# Altium footprint library Package_SO.PcbLib: 393 footprints (part 24 of 25)
Each footprint in its own frame and in the unit in brackets; x right, y up, seen from the top. Pads: shape width x height; smd on the part's side, far side on the other; paste and mask are expansions set on the pad; w line width, h text height; cw(c..) or ccw(c..) is an arc to the next point about the centre after c.
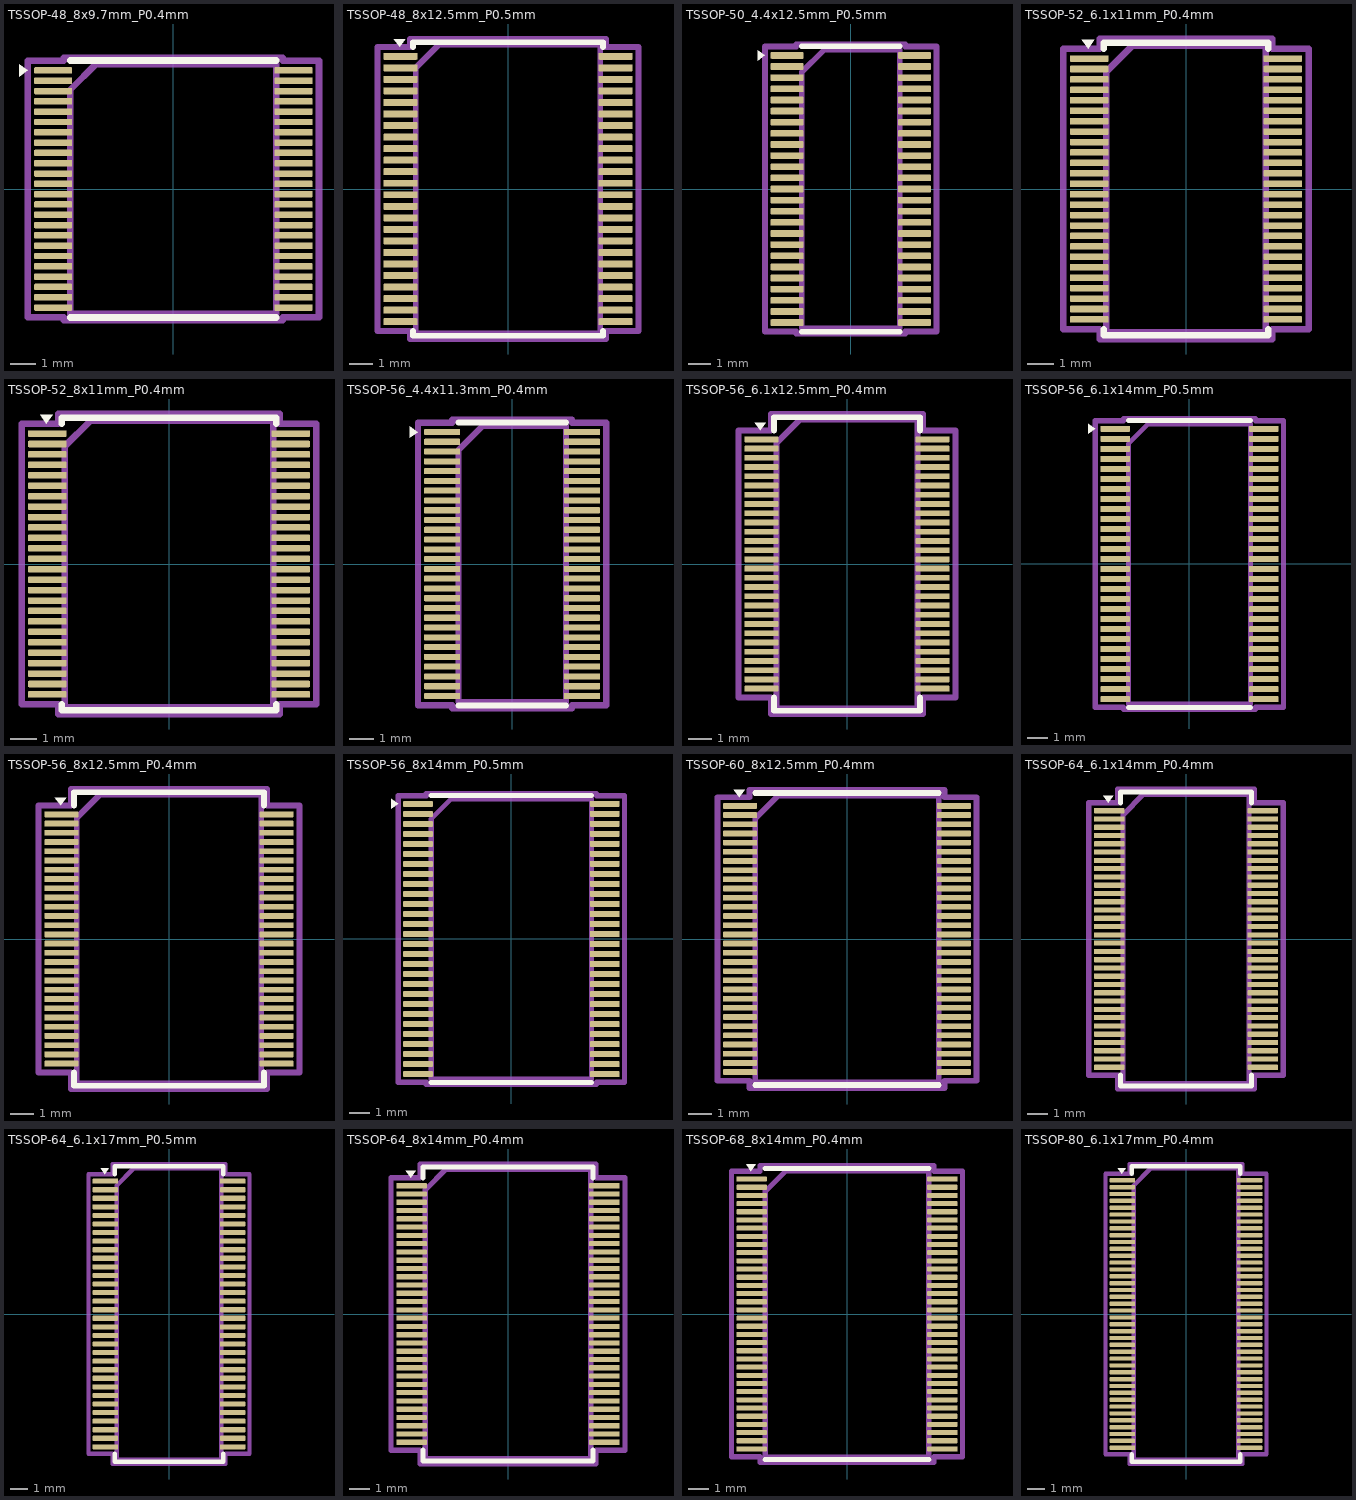
[diagram p23: the footprints below, top view; thin cyan lines are the x and y axes]

## TSSOP-48_8x9.7mm_P0.4mm [mm]
pads (48):
  rrect25% 1.475x0.25 smd: 1(-4.663,4.6) 2(-4.663,4.2) 3(-4.663,3.8) 4(-4.663,3.4) 5(-4.663,3) 6(-4.663,2.6) 7(-4.663,2.2) 8(-4.663,1.8) 9(-4.663,1.4) 10(-4.663,1) 11(-4.663,0.6) 12(-4.663,0.2) 13(-4.663,-0.2) 14(-4.663,-0.6) 15(-4.663,-1) 16(-4.663,-1.4) 17(-4.663,-1.8) 18(-4.663,-2.2) 19(-4.663,-2.6) 20(-4.663,-3) 21(-4.663,-3.4) 22(-4.663,-3.8) 23(-4.663,-4.2) 24(-4.663,-4.6) 25(4.663,-4.6) 26(4.663,-4.2) 27(4.663,-3.8) 28(4.663,-3.4) 29(4.663,-3) 30(4.663,-2.6) 31(4.663,-2.2) 32(4.663,-1.8) 33(4.663,-1.4) 34(4.663,-1) 35(4.663,-0.6) 36(4.663,-0.2) 37(4.663,0.2) 38(4.663,0.6) 39(4.663,1) 40(4.663,1.4) 41(4.663,1.8) 42(4.663,2.2) 43(4.663,2.6) 44(4.663,3) 45(4.663,3.4) 46(4.663,3.8) 47(4.663,4.2) 48(4.663,4.6)
F.SilkS:
  region: -5.66,4.6 -5.99,4.36 -5.99,4.84
  lines w0.254: -4,-4.985 0,-4.985 4,-4.985 ; -4,4.985 0,4.985 4,4.985
Top Assembly:
  lines w0.254: -4,-4.85 4,-4.85 4,4.85 -3,4.85 -4,3.85 -4,-4.85
  text "'.Designator'" at -4.047,-0.84 h1
Top Courtyard:
  lines w0.254: -5.65,-4.98 -4.25,-4.98 -4.25,-5.1 4.25,-5.1 4.25,-4.98 5.65,-4.98 5.65,4.98 4.25,4.98 4.25,5.1 -4.25,5.1 -4.25,4.98 -5.65,4.98 -5.65,-4.98
Top Designator:
  text ".Designator" at -7.724,-0.508 h1.52

## TSSOP-48_8x12.5mm_P0.5mm [mm]
pads (48):
  rrect25% 1.475x0.3 smd: 1(-4.663,5.75) 2(-4.663,5.25) 3(-4.663,4.75) 4(-4.663,4.25) 5(-4.663,3.75) 6(-4.663,3.25) 7(-4.663,2.75) 8(-4.663,2.25) 9(-4.663,1.75) 10(-4.663,1.25) 11(-4.663,0.75) 12(-4.663,0.25) 13(-4.663,-0.25) 14(-4.663,-0.75) 15(-4.663,-1.25) 16(-4.663,-1.75) 17(-4.663,-2.25) 18(-4.663,-2.75) 19(-4.663,-3.25) 20(-4.663,-3.75) 21(-4.663,-4.25) 22(-4.663,-4.75) 23(-4.663,-5.25) 24(-4.663,-5.75) 25(4.663,-5.75) 26(4.663,-5.25) 27(4.663,-4.75) 28(4.663,-4.25) 29(4.663,-3.75) 30(4.663,-3.25) 31(4.663,-2.75) 32(4.663,-2.25) 33(4.663,-1.75) 34(4.663,-1.25) 35(4.663,-0.75) 36(4.663,-0.25) 37(4.663,0.25) 38(4.663,0.75) 39(4.663,1.25) 40(4.663,1.75) 41(4.663,2.25) 42(4.663,2.75) 43(4.663,3.25) 44(4.663,3.75) 45(4.663,4.25) 46(4.663,4.75) 47(4.663,5.25) 48(4.663,5.75)
F.SilkS:
  region: -4.7,6.16 -4.94,6.49 -4.46,6.49
  lines w0.254: -4.11,-6.16 -4.11,-6.36 0,-6.36 4.11,-6.36 4.11,-6.16 ; -4.11,6.16 -4.11,6.36 0,6.36 4.11,6.36 4.11,6.16
Top Assembly:
  lines w0.254: -4,-6.25 4,-6.25 4,6.25 -3,6.25 -4,5.25 -4,-6.25
  text "'.Designator'" at -4.047,-0.84 h1
Top Courtyard:
  lines w0.254: -5.65,-6.15 -4.25,-6.15 -4.25,-6.5 4.25,-6.5 4.25,-6.15 5.65,-6.15 5.65,6.15 4.25,6.15 4.25,6.5 -4.25,6.5 -4.25,6.15 -5.65,6.15 -5.65,-6.15
Top Designator:
  text ".Designator" at -7.618,-0.508 h1.52

## TSSOP-50_4.4x12.5mm_P0.5mm [mm]
pads (50):
  rrect25% 1.475x0.3 smd: 1(-2.863,6) 2(-2.863,5.5) 3(-2.863,5) 4(-2.863,4.5) 5(-2.863,4) 6(-2.863,3.5) 7(-2.863,3) 8(-2.863,2.5) 9(-2.863,2) 10(-2.863,1.5) 11(-2.863,1) 12(-2.863,0.5) 13(-2.863,0) 14(-2.863,-0.5) 15(-2.863,-1) 16(-2.863,-1.5) 17(-2.863,-2) 18(-2.863,-2.5) 19(-2.863,-3) 20(-2.863,-3.5) 21(-2.863,-4) 22(-2.863,-4.5) 23(-2.863,-5) 24(-2.863,-5.5) 25(-2.863,-6) 26(2.863,-6) 27(2.863,-5.5) 28(2.863,-5) 29(2.863,-4.5) 30(2.863,-4) 31(2.863,-3.5) 32(2.863,-3) 33(2.863,-2.5) 34(2.863,-2) 35(2.863,-1.5) 36(2.863,-1) 37(2.863,-0.5) 38(2.863,0) 39(2.863,0.5) 40(2.863,1) 41(2.863,1.5) 42(2.863,2) 43(2.863,2.5) 44(2.863,3) 45(2.863,3.5) 46(2.863,4) 47(2.863,4.5) 48(2.863,5) 49(2.863,5.5) 50(2.863,6)
F.SilkS:
  region: -3.86,6 -4.19,5.76 -4.19,6.24
  lines w0.254: -2.2,-6.41 0,-6.41 2.2,-6.41 ; -2.2,6.41 0,6.41 2.2,6.41
Top Assembly:
  lines w0.254: -2.2,-6.25 2.2,-6.25 2.2,6.25 -1.2,6.25 -2.2,5.25 -2.2,-6.25
  text "'.Designator'" at -4.047,-0.84 h1
Top Courtyard:
  lines w0.254: -3.85,-6.4 -2.45,-6.4 -2.45,-6.5 2.45,-6.5 2.45,-6.4 3.85,-6.4 3.85,6.4 2.45,6.4 2.45,6.5 -2.45,6.5 -2.45,6.4 -3.85,6.4 -3.85,-6.4
Top Designator:
  text ".Designator" at -7.727,-0.508 h1.52

## TSSOP-52_6.1x11mm_P0.4mm [mm]
pads (52):
  rrect25% 1.475x0.25 smd: 1(-3.712,5) 2(-3.712,4.6) 3(-3.712,4.2) 4(-3.712,3.8) 5(-3.712,3.4) 6(-3.712,3) 7(-3.712,2.6) 8(-3.712,2.2) 9(-3.712,1.8) 10(-3.712,1.4) 11(-3.712,1) 12(-3.712,0.6) 13(-3.712,0.2) 14(-3.712,-0.2) 15(-3.712,-0.6) 16(-3.712,-1) 17(-3.712,-1.4) 18(-3.712,-1.8) 19(-3.712,-2.2) 20(-3.712,-2.6) 21(-3.712,-3) 22(-3.712,-3.4) 23(-3.712,-3.8) 24(-3.712,-4.2) 25(-3.712,-4.6) 26(-3.712,-5) 27(3.712,-5) 28(3.712,-4.6) 29(3.712,-4.2) 30(3.712,-3.8) 31(3.712,-3.4) 32(3.712,-3) 33(3.712,-2.6) 34(3.712,-2.2) 35(3.712,-1.8) 36(3.712,-1.4) 37(3.712,-1) 38(3.712,-0.6) 39(3.712,-0.2) 40(3.712,0.2) 41(3.712,0.6) 42(3.712,1) 43(3.712,1.4) 44(3.712,1.8) 45(3.712,2.2) 46(3.712,2.6) 47(3.712,3) 48(3.712,3.4) 49(3.712,3.8) 50(3.712,4.2) 51(3.712,4.6) 52(3.712,5)
F.SilkS:
  region: -3.75,5.385 -3.99,5.715 -3.51,5.715
  lines w0.254: -3.16,-5.385 -3.16,-5.61 0,-5.61 3.16,-5.61 3.16,-5.385 ; -3.16,5.385 -3.16,5.61 0,5.61 3.16,5.61 3.16,5.385
Top Assembly:
  lines w0.254: -3.05,-5.5 3.05,-5.5 3.05,5.5 -2.05,5.5 -3.05,4.5 -3.05,-5.5
  text "'.Designator'" at -4.047,-0.84 h1
Top Courtyard:
  lines w0.254: -4.7,-5.38 -3.3,-5.38 -3.3,-5.75 3.3,-5.75 3.3,-5.38 4.7,-5.38 4.7,5.38 3.3,5.38 3.3,5.75 -3.3,5.75 -3.3,5.38 -4.7,5.38 -4.7,-5.38
Top Designator:
  text ".Designator" at -7.618,-0.508 h1.52

## TSSOP-52_8x11mm_P0.4mm [mm]
pads (52):
  rrect25% 1.475x0.25 smd: 1(-4.663,5) 2(-4.663,4.6) 3(-4.663,4.2) 4(-4.663,3.8) 5(-4.663,3.4) 6(-4.663,3) 7(-4.663,2.6) 8(-4.663,2.2) 9(-4.663,1.8) 10(-4.663,1.4) 11(-4.663,1) 12(-4.663,0.6) 13(-4.663,0.2) 14(-4.663,-0.2) 15(-4.663,-0.6) 16(-4.663,-1) 17(-4.663,-1.4) 18(-4.663,-1.8) 19(-4.663,-2.2) 20(-4.663,-2.6) 21(-4.663,-3) 22(-4.663,-3.4) 23(-4.663,-3.8) 24(-4.663,-4.2) 25(-4.663,-4.6) 26(-4.663,-5) 27(4.663,-5) 28(4.663,-4.6) 29(4.663,-4.2) 30(4.663,-3.8) 31(4.663,-3.4) 32(4.663,-3) 33(4.663,-2.6) 34(4.663,-2.2) 35(4.663,-1.8) 36(4.663,-1.4) 37(4.663,-1) 38(4.663,-0.6) 39(4.663,-0.2) 40(4.663,0.2) 41(4.663,0.6) 42(4.663,1) 43(4.663,1.4) 44(4.663,1.8) 45(4.663,2.2) 46(4.663,2.6) 47(4.663,3) 48(4.663,3.4) 49(4.663,3.8) 50(4.663,4.2) 51(4.663,4.6) 52(4.663,5)
F.SilkS:
  region: -4.7,5.385 -4.94,5.715 -4.46,5.715
  lines w0.254: -4.11,-5.385 -4.11,-5.61 0,-5.61 4.11,-5.61 4.11,-5.385 ; -4.11,5.385 -4.11,5.61 0,5.61 4.11,5.61 4.11,5.385
Top Assembly:
  lines w0.254: -4,-5.5 4,-5.5 4,5.5 -3,5.5 -4,4.5 -4,-5.5
  text "'.Designator'" at -4.047,-0.84 h1
Top Courtyard:
  lines w0.254: -5.65,-5.38 -4.25,-5.38 -4.25,-5.75 4.25,-5.75 4.25,-5.38 5.65,-5.38 5.65,5.38 4.25,5.38 4.25,5.75 -4.25,5.75 -4.25,5.38 -5.65,5.38 -5.65,-5.38
Top Designator:
  text ".Designator" at -7.618,-0.508 h1.52

## TSSOP-56_4.4x11.3mm_P0.4mm [mm]
pads (56):
  rrect25% 1.475x0.25 smd: 1(-2.863,5.4) 2(-2.863,5) 3(-2.863,4.6) 4(-2.863,4.2) 5(-2.863,3.8) 6(-2.863,3.4) 7(-2.863,3) 8(-2.863,2.6) 9(-2.863,2.2) 10(-2.863,1.8) 11(-2.863,1.4) 12(-2.863,1) 13(-2.863,0.6) 14(-2.863,0.2) 15(-2.863,-0.2) 16(-2.863,-0.6) 17(-2.863,-1) 18(-2.863,-1.4) 19(-2.863,-1.8) 20(-2.863,-2.2) 21(-2.863,-2.6) 22(-2.863,-3) 23(-2.863,-3.4) 24(-2.863,-3.8) 25(-2.863,-4.2) 26(-2.863,-4.6) 27(-2.863,-5) 28(-2.863,-5.4) 29(2.863,-5.4) 30(2.863,-5) 31(2.863,-4.6) 32(2.863,-4.2) 33(2.863,-3.8) 34(2.863,-3.4) 35(2.863,-3) 36(2.863,-2.6) 37(2.863,-2.2) 38(2.863,-1.8) 39(2.863,-1.4) 40(2.863,-1) 41(2.863,-0.6) 42(2.863,-0.2) 43(2.863,0.2) 44(2.863,0.6) 45(2.863,1) 46(2.863,1.4) 47(2.863,1.8) 48(2.863,2.2) 49(2.863,2.6) 50(2.863,3) 51(2.863,3.4) 52(2.863,3.8) 53(2.863,4.2) 54(2.863,4.6) 55(2.863,5) 56(2.863,5.4)
F.SilkS:
  region: -3.86,5.4 -4.19,5.16 -4.19,5.64
  lines w0.254: -2.2,-5.785 0,-5.785 2.2,-5.785 ; -2.2,5.785 0,5.785 2.2,5.785
Top Assembly:
  lines w0.254: -2.2,-5.65 2.2,-5.65 2.2,5.65 -1.2,5.65 -2.2,4.65 -2.2,-5.65
  text "'.Designator'" at -4.047,-0.84 h1
Top Courtyard:
  lines w0.254: -3.85,-5.78 -2.45,-5.78 -2.45,-5.9 2.45,-5.9 2.45,-5.78 3.85,-5.78 3.85,5.78 2.45,5.78 2.45,5.9 -2.45,5.9 -2.45,5.78 -3.85,5.78 -3.85,-5.78
Top Designator:
  text ".Designator" at -7.727,-0.508 h1.52

## TSSOP-56_6.1x12.5mm_P0.4mm [mm]
pads (56):
  rrect25% 1.475x0.25 smd: 1(-3.712,5.4) 2(-3.712,5) 3(-3.712,4.6) 4(-3.712,4.2) 5(-3.712,3.8) 6(-3.712,3.4) 7(-3.712,3) 8(-3.712,2.6) 9(-3.712,2.2) 10(-3.712,1.8) 11(-3.712,1.4) 12(-3.712,1) 13(-3.712,0.6) 14(-3.712,0.2) 15(-3.712,-0.2) 16(-3.712,-0.6) 17(-3.712,-1) 18(-3.712,-1.4) 19(-3.712,-1.8) 20(-3.712,-2.2) 21(-3.712,-2.6) 22(-3.712,-3) 23(-3.712,-3.4) 24(-3.712,-3.8) 25(-3.712,-4.2) 26(-3.712,-4.6) 27(-3.712,-5) 28(-3.712,-5.4) 29(3.712,-5.4) 30(3.712,-5) 31(3.712,-4.6) 32(3.712,-4.2) 33(3.712,-3.8) 34(3.712,-3.4) 35(3.712,-3) 36(3.712,-2.6) 37(3.712,-2.2) 38(3.712,-1.8) 39(3.712,-1.4) 40(3.712,-1) 41(3.712,-0.6) 42(3.712,-0.2) 43(3.712,0.2) 44(3.712,0.6) 45(3.712,1) 46(3.712,1.4) 47(3.712,1.8) 48(3.712,2.2) 49(3.712,2.6) 50(3.712,3) 51(3.712,3.4) 52(3.712,3.8) 53(3.712,4.2) 54(3.712,4.6) 55(3.712,5) 56(3.712,5.4)
F.SilkS:
  region: -3.75,5.785 -3.99,6.115 -3.51,6.115
  lines w0.254: -3.16,-5.785 -3.16,-6.36 0,-6.36 3.16,-6.36 3.16,-5.785 ; -3.16,5.785 -3.16,6.36 0,6.36 3.16,6.36 3.16,5.785
Top Assembly:
  lines w0.254: -3.05,-6.25 3.05,-6.25 3.05,6.25 -2.05,6.25 -3.05,5.25 -3.05,-6.25
  text "'.Designator'" at -4.047,-0.84 h1
Top Courtyard:
  lines w0.254: -4.7,-5.78 -3.3,-5.78 -3.3,-6.5 3.3,-6.5 3.3,-5.78 4.7,-5.78 4.7,5.78 3.3,5.78 3.3,6.5 -3.3,6.5 -3.3,5.78 -4.7,5.78 -4.7,-5.78
Top Designator:
  text ".Designator" at -7.618,-0.508 h1.52

## TSSOP-56_6.1x14mm_P0.5mm [mm]
pads (56):
  rrect25% 1.475x0.3 smd: 1(-3.712,6.75) 2(-3.712,6.25) 3(-3.712,5.75) 4(-3.712,5.25) 5(-3.712,4.75) 6(-3.712,4.25) 7(-3.712,3.75) 8(-3.712,3.25) 9(-3.712,2.75) 10(-3.712,2.25) 11(-3.712,1.75) 12(-3.712,1.25) 13(-3.712,0.75) 14(-3.712,0.25) 15(-3.712,-0.25) 16(-3.712,-0.75) 17(-3.712,-1.25) 18(-3.712,-1.75) 19(-3.712,-2.25) 20(-3.712,-2.75) 21(-3.712,-3.25) 22(-3.712,-3.75) 23(-3.712,-4.25) 24(-3.712,-4.75) 25(-3.712,-5.25) 26(-3.712,-5.75) 27(-3.712,-6.25) 28(-3.712,-6.75) 29(3.712,-6.75) 30(3.712,-6.25) 31(3.712,-5.75) 32(3.712,-5.25) 33(3.712,-4.75) 34(3.712,-4.25) 35(3.712,-3.75) 36(3.712,-3.25) 37(3.712,-2.75) 38(3.712,-2.25) 39(3.712,-1.75) 40(3.712,-1.25) 41(3.712,-0.75) 42(3.712,-0.25) 43(3.712,0.25) 44(3.712,0.75) 45(3.712,1.25) 46(3.712,1.75) 47(3.712,2.25) 48(3.712,2.75) 49(3.712,3.25) 50(3.712,3.75) 51(3.712,4.25) 52(3.712,4.75) 53(3.712,5.25) 54(3.712,5.75) 55(3.712,6.25) 56(3.712,6.75)
F.SilkS:
  region: -4.71,6.75 -5.04,6.51 -5.04,6.99
  lines w0.254: -3.05,-7.16 0,-7.16 3.05,-7.16 ; -3.05,7.16 0,7.16 3.05,7.16
Top Assembly:
  lines w0.254: -3.05,-7 3.05,-7 3.05,7 -2.05,7 -3.05,6 -3.05,-7
  text "'.Designator'" at -4.047,-0.84 h1
Top Courtyard:
  lines w0.254: -4.7,-7.15 -3.3,-7.15 -3.3,-7.25 3.3,-7.25 3.3,-7.15 4.7,-7.15 4.7,7.15 3.3,7.15 3.3,7.25 -3.3,7.25 -3.3,7.15 -4.7,7.15 -4.7,-7.15
Top Designator:
  text ".Designator" at -7.724,-0.508 h1.52

## TSSOP-56_8x12.5mm_P0.4mm [mm]
pads (56):
  rrect25% 1.475x0.25 smd: 1(-4.663,5.4) 2(-4.663,5) 3(-4.663,4.6) 4(-4.663,4.2) 5(-4.663,3.8) 6(-4.663,3.4) 7(-4.663,3) 8(-4.663,2.6) 9(-4.663,2.2) 10(-4.663,1.8) 11(-4.663,1.4) 12(-4.663,1) 13(-4.663,0.6) 14(-4.663,0.2) 15(-4.663,-0.2) 16(-4.663,-0.6) 17(-4.663,-1) 18(-4.663,-1.4) 19(-4.663,-1.8) 20(-4.663,-2.2) 21(-4.663,-2.6) 22(-4.663,-3) 23(-4.663,-3.4) 24(-4.663,-3.8) 25(-4.663,-4.2) 26(-4.663,-4.6) 27(-4.663,-5) 28(-4.663,-5.4) 29(4.663,-5.4) 30(4.663,-5) 31(4.663,-4.6) 32(4.663,-4.2) 33(4.663,-3.8) 34(4.663,-3.4) 35(4.663,-3) 36(4.663,-2.6) 37(4.663,-2.2) 38(4.663,-1.8) 39(4.663,-1.4) 40(4.663,-1) 41(4.663,-0.6) 42(4.663,-0.2) 43(4.663,0.2) 44(4.663,0.6) 45(4.663,1) 46(4.663,1.4) 47(4.663,1.8) 48(4.663,2.2) 49(4.663,2.6) 50(4.663,3) 51(4.663,3.4) 52(4.663,3.8) 53(4.663,4.2) 54(4.663,4.6) 55(4.663,5) 56(4.663,5.4)
F.SilkS:
  region: -4.7,5.785 -4.94,6.115 -4.46,6.115
  lines w0.254: -4.11,-5.785 -4.11,-6.36 0,-6.36 4.11,-6.36 4.11,-5.785 ; -4.11,5.785 -4.11,6.36 0,6.36 4.11,6.36 4.11,5.785
Top Assembly:
  lines w0.254: -4,-6.25 4,-6.25 4,6.25 -3,6.25 -4,5.25 -4,-6.25
  text "'.Designator'" at -4.047,-0.84 h1
Top Courtyard:
  lines w0.254: -5.65,-5.78 -4.25,-5.78 -4.25,-6.5 4.25,-6.5 4.25,-5.78 5.65,-5.78 5.65,5.78 4.25,5.78 4.25,6.5 -4.25,6.5 -4.25,5.78 -5.65,5.78 -5.65,-5.78
Top Designator:
  text ".Designator" at -7.618,-0.508 h1.52

## TSSOP-56_8x14mm_P0.5mm [mm]
pads (56):
  rrect25% 1.475x0.3 smd: 1(-4.663,6.75) 2(-4.663,6.25) 3(-4.663,5.75) 4(-4.663,5.25) 5(-4.663,4.75) 6(-4.663,4.25) 7(-4.663,3.75) 8(-4.663,3.25) 9(-4.663,2.75) 10(-4.663,2.25) 11(-4.663,1.75) 12(-4.663,1.25) 13(-4.663,0.75) 14(-4.663,0.25) 15(-4.663,-0.25) 16(-4.663,-0.75) 17(-4.663,-1.25) 18(-4.663,-1.75) 19(-4.663,-2.25) 20(-4.663,-2.75) 21(-4.663,-3.25) 22(-4.663,-3.75) 23(-4.663,-4.25) 24(-4.663,-4.75) 25(-4.663,-5.25) 26(-4.663,-5.75) 27(-4.663,-6.25) 28(-4.663,-6.75) 29(4.663,-6.75) 30(4.663,-6.25) 31(4.663,-5.75) 32(4.663,-5.25) 33(4.663,-4.75) 34(4.663,-4.25) 35(4.663,-3.75) 36(4.663,-3.25) 37(4.663,-2.75) 38(4.663,-2.25) 39(4.663,-1.75) 40(4.663,-1.25) 41(4.663,-0.75) 42(4.663,-0.25) 43(4.663,0.25) 44(4.663,0.75) 45(4.663,1.25) 46(4.663,1.75) 47(4.663,2.25) 48(4.663,2.75) 49(4.663,3.25) 50(4.663,3.75) 51(4.663,4.25) 52(4.663,4.75) 53(4.663,5.25) 54(4.663,5.75) 55(4.663,6.25) 56(4.663,6.75)
F.SilkS:
  region: -5.66,6.75 -5.99,6.51 -5.99,6.99
  lines w0.254: -4,-7.16 0,-7.16 4,-7.16 ; -4,7.16 0,7.16 4,7.16
Top Assembly:
  lines w0.254: -4,-7 4,-7 4,7 -3,7 -4,6 -4,-7
  text "'.Designator'" at -4.047,-0.84 h1
Top Courtyard:
  lines w0.254: -5.65,-7.15 -4.25,-7.15 -4.25,-7.25 4.25,-7.25 4.25,-7.15 5.65,-7.15 5.65,7.15 4.25,7.15 4.25,7.25 -4.25,7.25 -4.25,7.15 -5.65,7.15 -5.65,-7.15
Top Designator:
  text ".Designator" at -7.724,-0.508 h1.52

## TSSOP-60_8x12.5mm_P0.4mm [mm]
pads (60):
  rrect25% 1.475x0.25 smd: 1(-4.663,5.8) 2(-4.663,5.4) 3(-4.663,5) 4(-4.663,4.6) 5(-4.663,4.2) 6(-4.663,3.8) 7(-4.663,3.4) 8(-4.663,3) 9(-4.663,2.6) 10(-4.663,2.2) 11(-4.663,1.8) 12(-4.663,1.4) 13(-4.663,1) 14(-4.663,0.6) 15(-4.663,0.2) 16(-4.663,-0.2) 17(-4.663,-0.6) 18(-4.663,-1) 19(-4.663,-1.4) 20(-4.663,-1.8) 21(-4.663,-2.2) 22(-4.663,-2.6) 23(-4.663,-3) 24(-4.663,-3.4) 25(-4.663,-3.8) 26(-4.663,-4.2) 27(-4.663,-4.6) 28(-4.663,-5) 29(-4.663,-5.4) 30(-4.663,-5.8) 31(4.663,-5.8) 32(4.663,-5.4) 33(4.663,-5) 34(4.663,-4.6) 35(4.663,-4.2) 36(4.663,-3.8) 37(4.663,-3.4) 38(4.663,-3) 39(4.663,-2.6) 40(4.663,-2.2) 41(4.663,-1.8) 42(4.663,-1.4) 43(4.663,-1) 44(4.663,-0.6) 45(4.663,-0.2) 46(4.663,0.2) 47(4.663,0.6) 48(4.663,1) 49(4.663,1.4) 50(4.663,1.8) 51(4.663,2.2) 52(4.663,2.6) 53(4.663,3) 54(4.663,3.4) 55(4.663,3.8) 56(4.663,4.2) 57(4.663,4.6) 58(4.663,5) 59(4.663,5.4) 60(4.663,5.8)
F.SilkS:
  region: -4.7,6.185 -4.94,6.515 -4.46,6.515
  lines w0.254: -4,-6.36 0,-6.36 4,-6.36 ; -4,6.36 0,6.36 4,6.36
Top Assembly:
  lines w0.254: -4,-6.25 4,-6.25 4,6.25 -3,6.25 -4,5.25 -4,-6.25
  text "'.Designator'" at -4.047,-0.84 h1
Top Courtyard:
  lines w0.254: -5.65,-6.18 -4.25,-6.18 -4.25,-6.5 4.25,-6.5 4.25,-6.18 5.65,-6.18 5.65,6.18 4.25,6.18 4.25,6.5 -4.25,6.5 -4.25,6.18 -5.65,6.18 -5.65,-6.18
Top Designator:
  text ".Designator" at -7.618,-0.508 h1.52

## TSSOP-64_6.1x14mm_P0.4mm [mm]
pads (64):
  rrect25% 1.475x0.25 smd: 1(-3.712,6.2) 2(-3.712,5.8) 3(-3.712,5.4) 4(-3.712,5) 5(-3.712,4.6) 6(-3.712,4.2) 7(-3.712,3.8) 8(-3.712,3.4) 9(-3.712,3) 10(-3.712,2.6) 11(-3.712,2.2) 12(-3.712,1.8) 13(-3.712,1.4) 14(-3.712,1) 15(-3.712,0.6) 16(-3.712,0.2) 17(-3.712,-0.2) 18(-3.712,-0.6) 19(-3.712,-1) 20(-3.712,-1.4) 21(-3.712,-1.8) 22(-3.712,-2.2) 23(-3.712,-2.6) 24(-3.712,-3) 25(-3.712,-3.4) 26(-3.712,-3.8) 27(-3.712,-4.2) 28(-3.712,-4.6) 29(-3.712,-5) 30(-3.712,-5.4) 31(-3.712,-5.8) 32(-3.712,-6.2) 33(3.712,-6.2) 34(3.712,-5.8) 35(3.712,-5.4) 36(3.712,-5) 37(3.712,-4.6) 38(3.712,-4.2) 39(3.712,-3.8) 40(3.712,-3.4) 41(3.712,-3) 42(3.712,-2.6) 43(3.712,-2.2) 44(3.712,-1.8) 45(3.712,-1.4) 46(3.712,-1) 47(3.712,-0.6) 48(3.712,-0.2) 49(3.712,0.2) 50(3.712,0.6) 51(3.712,1) 52(3.712,1.4) 53(3.712,1.8) 54(3.712,2.2) 55(3.712,2.6) 56(3.712,3) 57(3.712,3.4) 58(3.712,3.8) 59(3.712,4.2) 60(3.712,4.6) 61(3.712,5) 62(3.712,5.4) 63(3.712,5.8) 64(3.712,6.2)
F.SilkS:
  region: -3.75,6.585 -3.99,6.915 -3.51,6.915
  lines w0.254: -3.16,-6.585 -3.16,-7.11 0,-7.11 3.16,-7.11 3.16,-6.585 ; -3.16,6.585 -3.16,7.11 0,7.11 3.16,7.11 3.16,6.585
Top Assembly:
  lines w0.254: -3.05,-7 3.05,-7 3.05,7 -2.05,7 -3.05,6 -3.05,-7
  text "'.Designator'" at -4.047,-0.84 h1
Top Courtyard:
  lines w0.254: -4.7,-6.58 -3.3,-6.58 -3.3,-7.25 3.3,-7.25 3.3,-6.58 4.7,-6.58 4.7,6.58 3.3,6.58 3.3,7.25 -3.3,7.25 -3.3,6.58 -4.7,6.58 -4.7,-6.58
Top Designator:
  text ".Designator" at -7.618,-0.508 h1.52

## TSSOP-64_6.1x17mm_P0.5mm [mm]
pads (64):
  rrect25% 1.475x0.3 smd: 1(-3.712,7.75) 2(-3.712,7.25) 3(-3.712,6.75) 4(-3.712,6.25) 5(-3.712,5.75) 6(-3.712,5.25) 7(-3.712,4.75) 8(-3.712,4.25) 9(-3.712,3.75) 10(-3.712,3.25) 11(-3.712,2.75) 12(-3.712,2.25) 13(-3.712,1.75) 14(-3.712,1.25) 15(-3.712,0.75) 16(-3.712,0.25) 17(-3.712,-0.25) 18(-3.712,-0.75) 19(-3.712,-1.25) 20(-3.712,-1.75) 21(-3.712,-2.25) 22(-3.712,-2.75) 23(-3.712,-3.25) 24(-3.712,-3.75) 25(-3.712,-4.25) 26(-3.712,-4.75) 27(-3.712,-5.25) 28(-3.712,-5.75) 29(-3.712,-6.25) 30(-3.712,-6.75) 31(-3.712,-7.25) 32(-3.712,-7.75) 33(3.712,-7.75) 34(3.712,-7.25) 35(3.712,-6.75) 36(3.712,-6.25) 37(3.712,-5.75) 38(3.712,-5.25) 39(3.712,-4.75) 40(3.712,-4.25) 41(3.712,-3.75) 42(3.712,-3.25) 43(3.712,-2.75) 44(3.712,-2.25) 45(3.712,-1.75) 46(3.712,-1.25) 47(3.712,-0.75) 48(3.712,-0.25) 49(3.712,0.25) 50(3.712,0.75) 51(3.712,1.25) 52(3.712,1.75) 53(3.712,2.25) 54(3.712,2.75) 55(3.712,3.25) 56(3.712,3.75) 57(3.712,4.25) 58(3.712,4.75) 59(3.712,5.25) 60(3.712,5.75) 61(3.712,6.25) 62(3.712,6.75) 63(3.712,7.25) 64(3.712,7.75)
F.SilkS:
  region: -3.75,8.16 -3.99,8.49 -3.51,8.49
  lines w0.254: -3.16,-8.16 -3.16,-8.61 0,-8.61 3.16,-8.61 3.16,-8.16 ; -3.16,8.16 -3.16,8.61 0,8.61 3.16,8.61 3.16,8.16
Top Assembly:
  lines w0.254: -3.05,-8.5 3.05,-8.5 3.05,8.5 -2.05,8.5 -3.05,7.5 -3.05,-8.5
  text "'.Designator'" at -4.047,-0.84 h1
Top Courtyard:
  lines w0.254: -4.7,-8.15 -3.3,-8.15 -3.3,-8.75 3.3,-8.75 3.3,-8.15 4.7,-8.15 4.7,8.15 3.3,8.15 3.3,8.75 -3.3,8.75 -3.3,8.15 -4.7,8.15 -4.7,-8.15
Top Designator:
  text ".Designator" at -7.618,-0.508 h1.52

## TSSOP-64_8x14mm_P0.4mm [mm]
pads (64):
  rrect25% 1.475x0.25 smd: 1(-4.663,6.2) 2(-4.663,5.8) 3(-4.663,5.4) 4(-4.663,5) 5(-4.663,4.6) 6(-4.663,4.2) 7(-4.663,3.8) 8(-4.663,3.4) 9(-4.663,3) 10(-4.663,2.6) 11(-4.663,2.2) 12(-4.663,1.8) 13(-4.663,1.4) 14(-4.663,1) 15(-4.663,0.6) 16(-4.663,0.2) 17(-4.663,-0.2) 18(-4.663,-0.6) 19(-4.663,-1) 20(-4.663,-1.4) 21(-4.663,-1.8) 22(-4.663,-2.2) 23(-4.663,-2.6) 24(-4.663,-3) 25(-4.663,-3.4) 26(-4.663,-3.8) 27(-4.663,-4.2) 28(-4.663,-4.6) 29(-4.663,-5) 30(-4.663,-5.4) 31(-4.663,-5.8) 32(-4.663,-6.2) 33(4.663,-6.2) 34(4.663,-5.8) 35(4.663,-5.4) 36(4.663,-5) 37(4.663,-4.6) 38(4.663,-4.2) 39(4.663,-3.8) 40(4.663,-3.4) 41(4.663,-3) 42(4.663,-2.6) 43(4.663,-2.2) 44(4.663,-1.8) 45(4.663,-1.4) 46(4.663,-1) 47(4.663,-0.6) 48(4.663,-0.2) 49(4.663,0.2) 50(4.663,0.6) 51(4.663,1) 52(4.663,1.4) 53(4.663,1.8) 54(4.663,2.2) 55(4.663,2.6) 56(4.663,3) 57(4.663,3.4) 58(4.663,3.8) 59(4.663,4.2) 60(4.663,4.6) 61(4.663,5) 62(4.663,5.4) 63(4.663,5.8) 64(4.663,6.2)
F.SilkS:
  region: -4.7,6.585 -4.94,6.915 -4.46,6.915
  lines w0.254: -4.11,-6.585 -4.11,-7.11 0,-7.11 4.11,-7.11 4.11,-6.585 ; -4.11,6.585 -4.11,7.11 0,7.11 4.11,7.11 4.11,6.585
Top Assembly:
  lines w0.254: -4,-7 4,-7 4,7 -3,7 -4,6 -4,-7
  text "'.Designator'" at -4.047,-0.84 h1
Top Courtyard:
  lines w0.254: -5.65,-6.58 -4.25,-6.58 -4.25,-7.25 4.25,-7.25 4.25,-6.58 5.65,-6.58 5.65,6.58 4.25,6.58 4.25,7.25 -4.25,7.25 -4.25,6.58 -5.65,6.58 -5.65,-6.58
Top Designator:
  text ".Designator" at -7.618,-0.508 h1.52

## TSSOP-68_8x14mm_P0.4mm [mm]
pads (68):
  rrect25% 1.475x0.25 smd: 1(-4.663,6.6) 2(-4.663,6.2) 3(-4.663,5.8) 4(-4.663,5.4) 5(-4.663,5) 6(-4.663,4.6) 7(-4.663,4.2) 8(-4.663,3.8) 9(-4.663,3.4) 10(-4.663,3) 11(-4.663,2.6) 12(-4.663,2.2) 13(-4.663,1.8) 14(-4.663,1.4) 15(-4.663,1) 16(-4.663,0.6) 17(-4.663,0.2) 18(-4.663,-0.2) 19(-4.663,-0.6) 20(-4.663,-1) 21(-4.663,-1.4) 22(-4.663,-1.8) 23(-4.663,-2.2) 24(-4.663,-2.6) 25(-4.663,-3) 26(-4.663,-3.4) 27(-4.663,-3.8) 28(-4.663,-4.2) 29(-4.663,-4.6) 30(-4.663,-5) 31(-4.663,-5.4) 32(-4.663,-5.8) 33(-4.663,-6.2) 34(-4.663,-6.6) 35(4.663,-6.6) 36(4.663,-6.2) 37(4.663,-5.8) 38(4.663,-5.4) 39(4.663,-5) 40(4.663,-4.6) 41(4.663,-4.2) 42(4.663,-3.8) 43(4.663,-3.4) 44(4.663,-3) 45(4.663,-2.6) 46(4.663,-2.2) 47(4.663,-1.8) 48(4.663,-1.4) 49(4.663,-1) 50(4.663,-0.6) 51(4.663,-0.2) 52(4.663,0.2) 53(4.663,0.6) 54(4.663,1) 55(4.663,1.4) 56(4.663,1.8) 57(4.663,2.2) 58(4.663,2.6) 59(4.663,3) 60(4.663,3.4) 61(4.663,3.8) 62(4.663,4.2) 63(4.663,4.6) 64(4.663,5) 65(4.663,5.4) 66(4.663,5.8) 67(4.663,6.2) 68(4.663,6.6)
F.SilkS:
  region: -4.7,6.985 -4.94,7.315 -4.46,7.315
  lines w0.254: -4,-7.11 0,-7.11 4,-7.11 ; -4,7.11 0,7.11 4,7.11
Top Assembly:
  lines w0.254: -4,-7 4,-7 4,7 -3,7 -4,6 -4,-7
  text "'.Designator'" at -4.047,-0.84 h1
Top Courtyard:
  lines w0.254: -5.65,-6.98 -4.25,-6.98 -4.25,-7.25 4.25,-7.25 4.25,-6.98 5.65,-6.98 5.65,6.98 4.25,6.98 4.25,7.25 -4.25,7.25 -4.25,6.98 -5.65,6.98 -5.65,-6.98
Top Designator:
  text ".Designator" at -7.618,-0.508 h1.52

## TSSOP-80_6.1x17mm_P0.4mm [mm]
pads (80):
  rrect25% 1.475x0.25 smd: 1(-3.712,7.8) 2(-3.712,7.4) 3(-3.712,7) 4(-3.712,6.6) 5(-3.712,6.2) 6(-3.712,5.8) 7(-3.712,5.4) 8(-3.712,5) 9(-3.712,4.6) 10(-3.712,4.2) 11(-3.712,3.8) 12(-3.712,3.4) 13(-3.712,3) 14(-3.712,2.6) 15(-3.712,2.2) 16(-3.712,1.8) 17(-3.712,1.4) 18(-3.712,1) 19(-3.712,0.6) 20(-3.712,0.2) 21(-3.712,-0.2) 22(-3.712,-0.6) 23(-3.712,-1) 24(-3.712,-1.4) 25(-3.712,-1.8) 26(-3.712,-2.2) 27(-3.712,-2.6) 28(-3.712,-3) 29(-3.712,-3.4) 30(-3.712,-3.8) 31(-3.712,-4.2) 32(-3.712,-4.6) 33(-3.712,-5) 34(-3.712,-5.4) 35(-3.712,-5.8) 36(-3.712,-6.2) 37(-3.712,-6.6) 38(-3.712,-7) 39(-3.712,-7.4) 40(-3.712,-7.8) 41(3.712,-7.8) 42(3.712,-7.4) 43(3.712,-7) 44(3.712,-6.6) 45(3.712,-6.2) 46(3.712,-5.8) 47(3.712,-5.4) 48(3.712,-5) 49(3.712,-4.6) 50(3.712,-4.2) 51(3.712,-3.8) 52(3.712,-3.4) 53(3.712,-3) 54(3.712,-2.6) 55(3.712,-2.2) 56(3.712,-1.8) 57(3.712,-1.4) 58(3.712,-1) 59(3.712,-0.6) 60(3.712,-0.2) 61(3.712,0.2) 62(3.712,0.6) 63(3.712,1) 64(3.712,1.4) 65(3.712,1.8) 66(3.712,2.2) 67(3.712,2.6) 68(3.712,3) 69(3.712,3.4) 70(3.712,3.8) 71(3.712,4.2) 72(3.712,4.6) 73(3.712,5) 74(3.712,5.4) 75(3.712,5.8) 76(3.712,6.2) 77(3.712,6.6) 78(3.712,7) 79(3.712,7.4) 80(3.712,7.8)
F.SilkS:
  region: -3.75,8.185 -3.99,8.515 -3.51,8.515
  lines w0.254: -3.16,-8.185 -3.16,-8.61 0,-8.61 3.16,-8.61 3.16,-8.185 ; -3.16,8.185 -3.16,8.61 0,8.61 3.16,8.61 3.16,8.185
Top Assembly:
  lines w0.254: -3.05,-8.5 3.05,-8.5 3.05,8.5 -2.05,8.5 -3.05,7.5 -3.05,-8.5
  text "'.Designator'" at -4.047,-0.84 h1
Top Courtyard:
  lines w0.254: -4.7,-8.18 -3.3,-8.18 -3.3,-8.75 3.3,-8.75 3.3,-8.18 4.7,-8.18 4.7,8.18 3.3,8.18 3.3,8.75 -3.3,8.75 -3.3,8.18 -4.7,8.18 -4.7,-8.18
Top Designator:
  text ".Designator" at -7.618,-0.508 h1.52